# Altium footprint library SI-61001-F.PcbLib: 1 footprints
Each footprint in its own frame and in the unit in brackets; x right, y up, seen from the top. Pads: shape width x height; smd on the part's side, far side on the other; paste and mask are expansions set on the pad; w line width, h text height; cw(c..) or ccw(c..) is an arc to the next point about the centre after c.
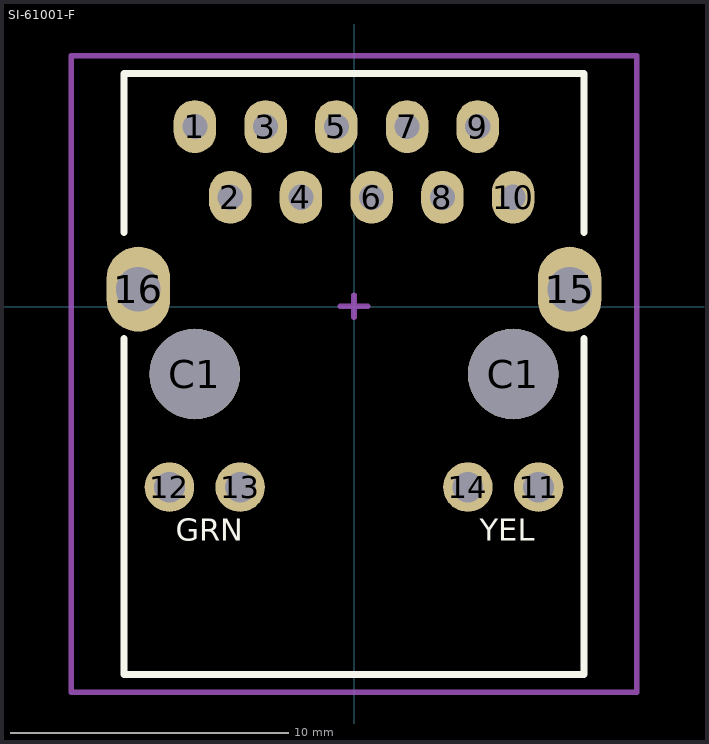
[diagram p0: the footprint, top view; thin cyan lines are the x and y axes]

## SI-61001-F [mil]
pads (18):
  oval 60.04x74.8 hole 35.43: 1(-225,255) 2(-175,155) 3(-125,255) 4(-75,155) 5(-25,255) 6(25,155) 7(75,255) 8(125,155) 9(175,255) 10(225,155)
  round 70 hole 43.31: 11(261,-255) 12(-261,-255) 13(-161,-255) 14(161,-255)
  oval 90x120 hole 62.99: 15(305,25) 16(-305,25)
  round 128 hole 127.95 unplated: C1(-225,-95) C1(225,-95)
Top Overlay:
  lines w10: -325,-45 -325,-520 325,-520 325,-45 ; -325,105 -325,330 325,330 325,105
  text "YEL" at 178,-331 h31.5
  text "GRN" at -252,-331 h31.5
Top Assembly:
  lines w7.87: -400,-545 400,-545 400,355 -400,355 -400,-545
Top Courtyard:
  lines w7.87: -19.68,0.81 19.68,0.81 ; 0,-14.94 0,16.56 ; -400,-545 400,-545 400,355 -400,355 -400,-545
3D body "User Library-JD0-0001NL.STEP": height 607.95, standoff -135.35, extent -378.13,-516.55 380.14,324